# EAGLE library part SN65LVDM31 (library NewSDR)
High-Speed Differential Lines Driver
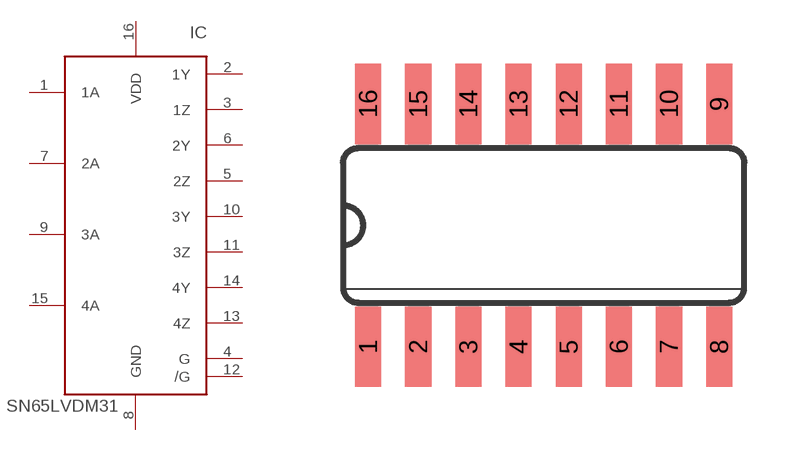
[diagram p49: symbol with the pads of SO16; footprint SO16]

Designator prefix IC

## SN65LVDM31  [SO16]
1  1A  in
2  1Y  out
3  1Z  out
4  G  in
5  2Z  out
6  2Y  out
7  2A  in
8  GND  pwr
9  3A  in
10  3Y  out
11  3Z  out
12  /G  in
13  4Z  out
14  4Y  out
15  4A  in
16  VDD  pwr

## Footprint SO16 (pad centres in mm)
Small Outline package 150 mil
smd 0.66 x 2.032: 1 -4.445,-3.073; 2 -3.175,-3.073; 3 -1.905,-3.073; 4 -0.635,-3.073; 5 0.635,-3.073; 6 1.905,-3.073; 7 3.175,-3.073; 8 4.445,-3.073; 9 4.445,3.073; 10 3.175,3.073; 11 1.905,3.073; 12 0.635,3.073; 13 -0.635,3.073; 14 -1.905,3.073; 15 -3.175,3.073; 16 -4.445,3.073